# Altium integrated library touchpad1.IntLib: 27 symbols
Pins are listed as number, name and electrical type; pins without a type are passive.

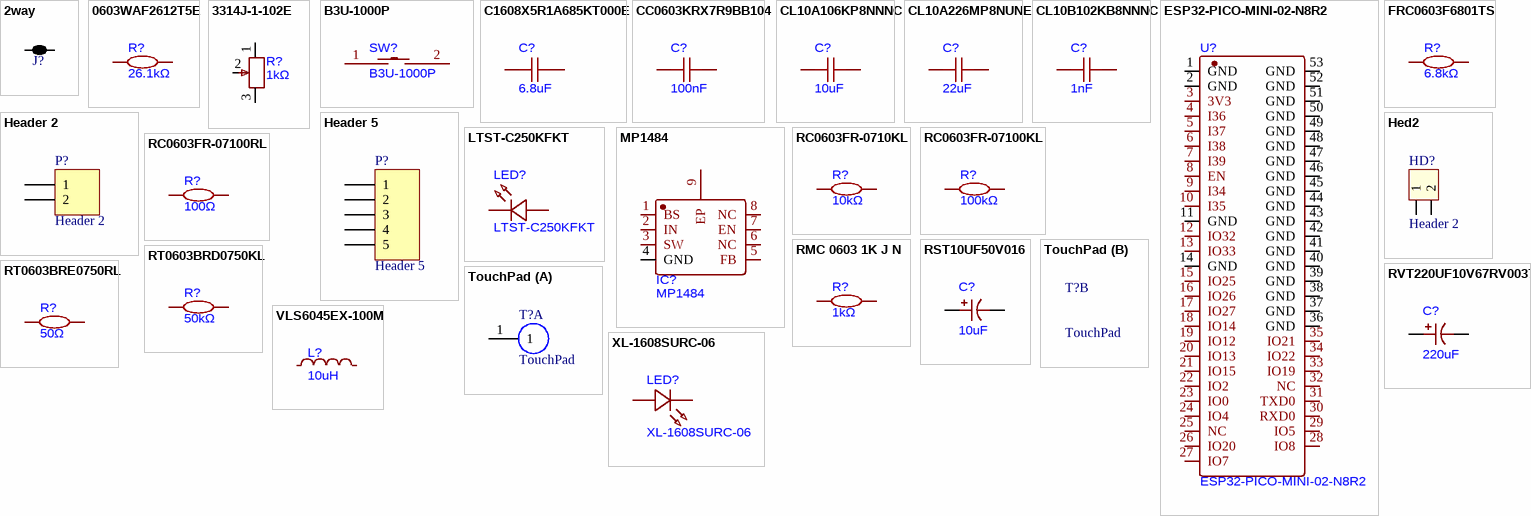
[diagram p0: symbols 2way to XL-1608SURC-06]

## 2way
designator J?, comment 2 way net tie junction  (value not drawn)  (net tie, no BOM)
ComponentLink1URL: http://www.edatools.cz/addons; ComponentLink1Description: Source; FootprintNote: LP=12mil, MP=40mil, HP=120mil
footprint 2way_LP (2 way low power net tie junction)
footprint 2way_MP (2 way medium power net tie junction)
footprint 2way_HP (2 way high power power net tie junction)
footprint 2way_HP (2 way high power power net tie junction)
pins: 1, 2

## 0603WAF2612T5E
designator R?, comment 26.1kΩ
100mW 26.1kΩ 75V ±100ppm/℃ Thick Film Resistor ±1% 0603 Chip Resistor - Surface Mount ROHS
footprint R0603
pins: 1, 2

## 3314J-1-102E
designator R?, comment 1kΩ
±20% ±100ppm/℃ 250mW 1kΩ SMD,4.5x4.5mm Trimmer Potentiometers ROHS
footprint RES-ADJ-SMD_3P-L4.5-W4.5-P2.30-BL-FS
pins: 1, 2, 3

## B3U-1000P
designator SW?
12V 2.5mm Round Button 3mm SPST 50mA SMD,3x2.5mm Tactile Switches ROHS
footprint KEY-SMD_B3U-1000PM
pins: 1, 2

## C1608X5R1A685KT000E
designator C?, comment 6.8uF
10V 6.8uF X5R ±10% 0603 Ceramic Capacitors ROHS
footprint C0603
footprint C0603 (cap 0603)
pins: 1, 2

## CC0603KRX7R9BB104
designator C?, comment 100nF
50V 100nF X7R ±10% 0603 Ceramic Capacitors ROHS
footprint C0603
footprint C0603 (cap 0603)
pins: 1, 2

## CL10A106KP8NNNC
designator C?, comment 10uF
10V 10uF X5R ±10% 0603 Ceramic Capacitors ROHS
footprint C0603
footprint C0603 (cap 0603)
pins: 1, 2

## CL10A226MP8NUNE
designator C?, comment 22uF
10V 22uF X5R ±20% 0603 Ceramic Capacitors ROHS
footprint C0603
pins: 1, 2

## CL10B102KB8NNNC
designator C?, comment 1nF
50V 1nF X7R ±10% 0603 Ceramic Capacitors ROHS
footprint C0603
pins: 1, 2

## ESP32-PICO-MINI-02-N8R2
designator U?
ESP32-PICO-MINI-02 and ESP32-PICO-MINI-02U are two general-purpose Wi-Fi + Bluetooth + Bluetooth LEMCU modules
footprint BULETM-SMD_ESP32-PICO-MINI-02-N8R2
pins: 1 GND, 2 GND, 3 3V3, 4 I36, 5 I37, 6 I38, 7 I39, 8 EN, 9 I34, 10 I35, 11 GND, 12 IO32, 13 IO33, 14 GND, 15 IO25, 16 IO26, 17 IO27, 18 IO14, 19 IO12, 20 IO13, 21 IO15, 22 IO2, 23 IO0, 24 IO4, 25 NC, 26 IO20, 27 IO7, 28 IO8, 29 IO5, 30 RXD0, 31 TXD0, 32 NC, 33 IO19, 34 IO22, 35 IO21, 36 GND, 37 GND, 38 GND, 39 GND, 40 GND, 41 GND, 42 GND, 43 GND, 44 GND, 45 GND, 46 GND, 47 GND, 48 GND, 49 GND, 50 GND, 51 GND, 52 GND, 53 GND

## FRC0603F6801TS
designator R?, comment 6.8kΩ
6.8kΩ 100mW 75V ±100ppm/℃ Thick Film Resistor ±1% 0603 Chip Resistor - Surface Mount ROHS
footprint R0603
footprint R0603 (Resister pakage 0603)
pins: 1, 2

## Header 2
designator P?
Header, 2-Pin; LatestRevisionDate: 17-Jul-2002; LatestRevisionNote: Re-released for DXP Platform.; Publisher: Altium Limited
footprint HDR1X2 (Connector; Header; 2 Position)
pins: 1, 2

## Header 5
designator P?
Header, 5-Pin; LatestRevisionDate: 17-Jul-2002; LatestRevisionNote: Re-released for DXP Platform.; Publisher: Altium Limited
footprint HDR1X5 (Connector; Header; 5 Position)
pins: 1, 2, 3, 4, 5

## Hed2
designator HD?, comment Header 2
Header 2 (Green); Value: Header 2
footprint HED2 (Header 2, 2 pin, hight 300mil, Pin to Pin 200, Colour Green)
footprint HED2T (Header 2, 2 pin, hight 300mil, Pin to Pin 200, Colour Green)
footprint HED2B (Header 2, 2 pin, hight 300mil, Pin to Pin 150, Colour White)
pins: 1, 2

## LTST-C250KFKT
designator LED?
20mA Orange 1.6V~2.4V 62.5mW 1205 LED Indication - Discrete ROHS
footprint LED1206_LTST-C230KRKT
pins: 1 A, 2 C

## MP1484
designator IC?
The MP1484 is a monolithic synchronous buck / regulator.
footprint SOP-8_L4.9-W3.9-P1.27-LS6.0-BL-EP3.1
footprint SOP-8_L4.9-W3.9-P1.27-LS6.0-BL-EP3.1 (MP1484)
pins: 1 BS, 2 IN, 3 SW, 4 GND, 5 FB, 6 NC, 7 EN, 8 NC, 9 EP

## RC0603FR-0710KL
designator R?, comment 10kΩ
100mW 10kΩ 75V ±100ppm/℃ Thick Film Resistor ±1% 0603 Chip Resistor - Surface Mount ROHS
footprint R0603
pins: 1, 2

## RC0603FR-07100KL
designator R?, comment 100kΩ
100mW 100kΩ 75V ±100ppm/℃ Thick Film Resistor ±1% 0603 Chip Resistor - Surface Mount ROHS
footprint R0603
footprint R0603 (Resister pakage 0603)
pins: 1, 2

## RC0603FR-07100RL
designator R?, comment 100Ω
100mW 100Ω 75V ±100ppm/℃ Thick Film Resistor ±1% 0603 Chip Resistor - Surface Mount ROHS
footprint R0603
pins: 1, 2

## RMC 0603 1K J N
designator R?, comment 1kΩ
100mW 1kΩ 50V ±100ppm/℃ Thick Film Resistor ±5% 0603 Chip Resistor - Surface Mount ROHS
footprint R0603
pins: 1, 2

## RST10UF50V016
designator C?, comment 10uF
10uF 50V 24mA@120Hz ±20% SMD,D5xL5.4mm Aluminum Electrolytic Capacitors ROHS
footprint CAP-SMD_BD6.3-L6.6-W6.6-FD
pins: 1, 2

## RT0603BRD0750KL
designator R?, comment 50kΩ
50kΩ 100mW 75V ±25ppm/℃ Thin Film Resistor ±0.1% 0603 Chip Resistor - Surface Mount ROHS
footprint R0603
footprint R0603 (Resister pakage 0603)
pins: 1, 2

## RT0603BRE0750RL
designator R?, comment 50Ω
100mW 50Ω 75V ±50ppm/℃ Thin Film Resistor ±0.1% 0603 Chip Resistor - Surface Mount ROHS
footprint R0603
pins: 1, 2

## RVT220UF10V67RV0037
designator C?, comment 220uF
220uF 10V ±20% 69mA@120Hz SMD,D6.3xL5.4mm Aluminum Electrolytic Capacitors ROHS
footprint CAP-SMD_BD6.3-L6.6-W6.6-FD
footprint CAP-SMD_BD6.3-L6.6-W6.6-FD (CAP ALUM 220uF ±20% 10V SMD)
pins: 1, 2

## TouchPad
designator T?
pad cam ung dien dung
footprint TouchPad
footprint TouchPad
part A pins: 1

## VLS6045EX-100M
designator L?, comment 10uH
3.4A 10uH ±20% 3.9A 47mΩ SMD,6x6mm Fixed Inductors ROHS
footprint IND-SMD_L6.0-W6.0_VLS6045EX-2R0N
pins: 1, 2

## XL-1608SURC-06
designator LED?
footprint LED0603-RD_RED
signal-integrity model Guessed Model (Inductor Model Details Guessed by Setup Helper)
simulation model L_Inductor_Default
signal-integrity model Model Name (Model Description)
pins: 1 K, 2 A